# Altium footprint library RCDQLY.PCBLIB: 125 footprints (part 8 of 8)
Each footprint in its own frame and in the unit in brackets; x right, y up, seen from the top. Pads: shape width x height; smd on the part's side, far side on the other; paste and mask are expansions set on the pad; w line width, h text height; cw(c..) or ccw(c..) is an arc to the next point about the centre after c.
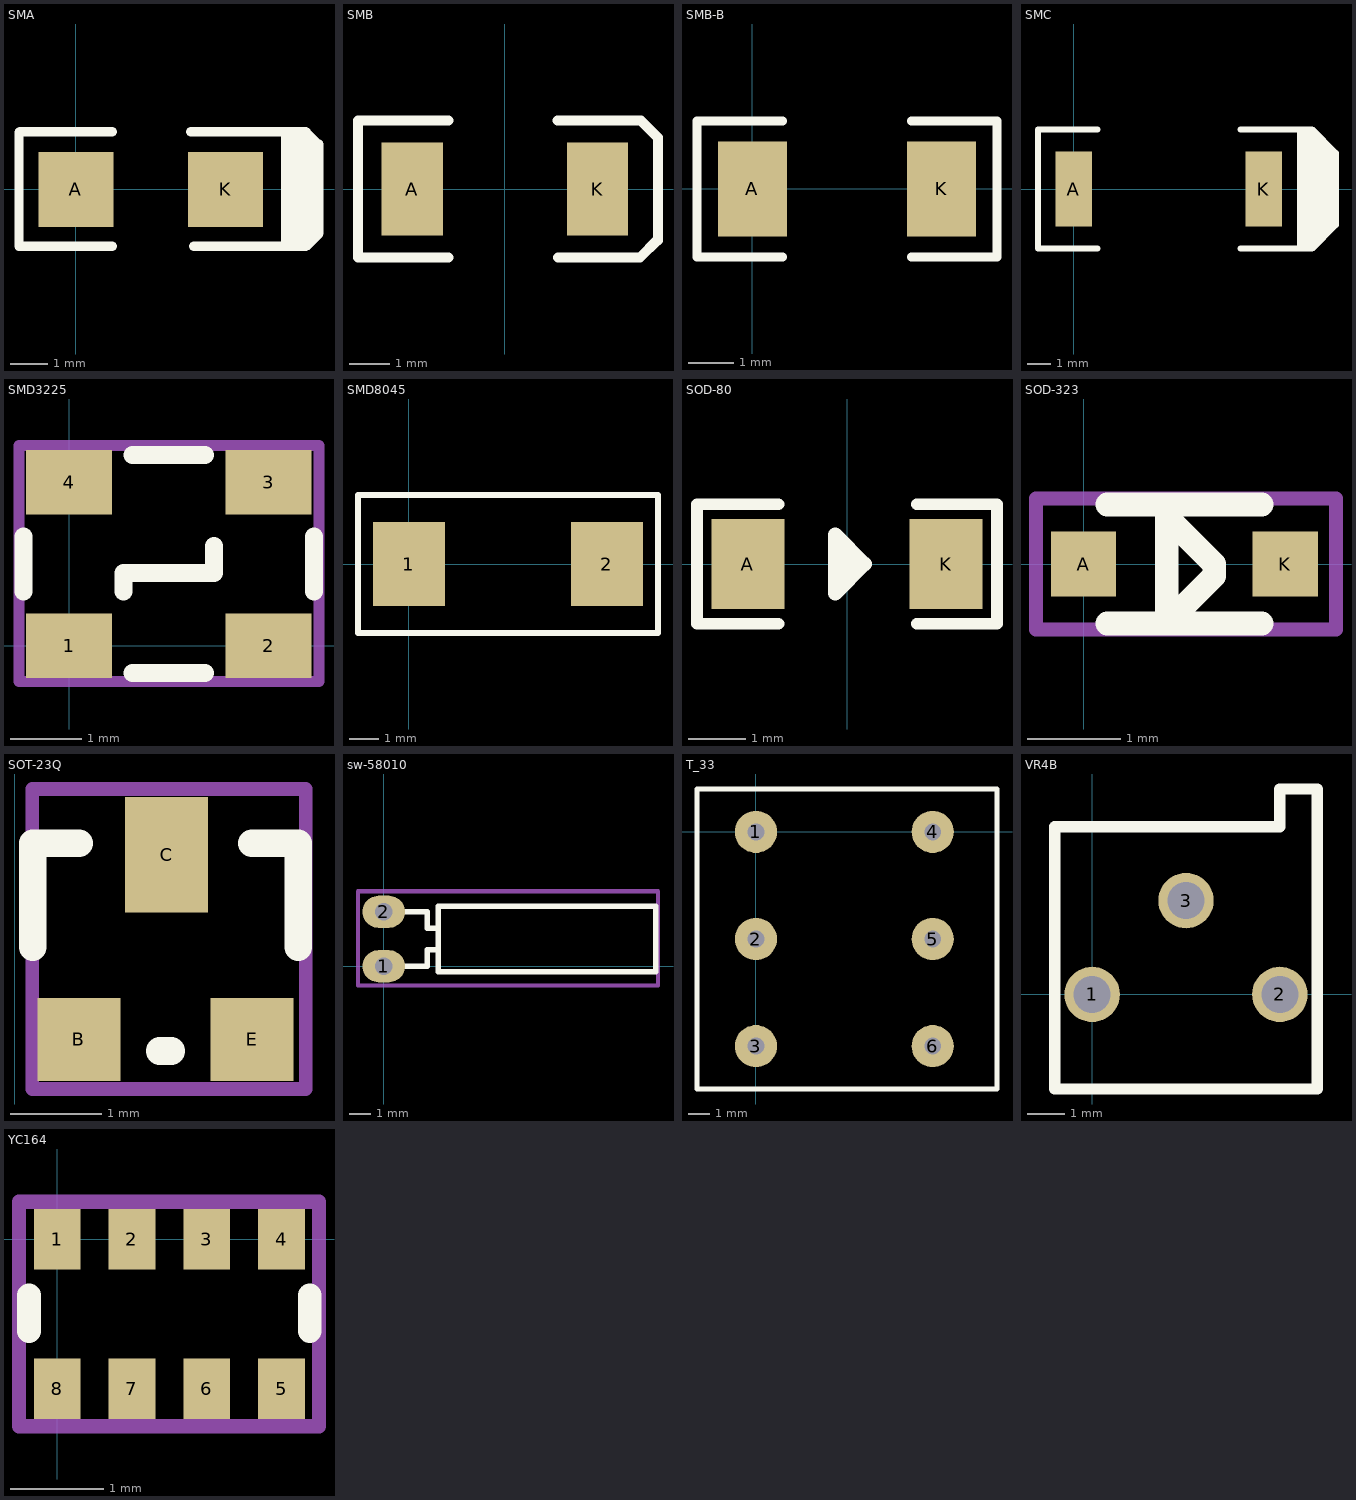
[diagram p7: the footprints below, top view; thin cyan lines are the x and y axes]

## SMA [mm]
pads (2):
  rect 2x2 smd: A(0,0) K(4,0)
TopOverlay:
  rectangle: 5.486,-1.473 6.223,1.499
  rectangle: 5.486,-1.27 6.379,1.241
  lines w0.254: -1.524,1.524 -1.524,-1.524 0.965,-1.524 ; -1.499,1.549 0.965,1.549 ; 3.073,1.549 6.147,1.549 6.147,1.346 6.498,0.995 6.431,0.995 6.262,0.825 6.262,1.033 ; 3.15,-1.524 5.486,-1.524 6.096,-1.524 ; 6.147,-1.473 6.096,-1.524 ; 6.172,1.511 6.477,1.206 ; 6.498,1.206 6.498,-1.176 6.15,-1.524 6.096,-1.524

## SMB [mm]
pads (2):
  rect 1.52x2.3 smd: A(-2.3,0) K(2.3,0)
TopOverlay:
  lines w0.254: -3.649,-1.702 -3.649,1.702 ; -3.649,-1.7 -1.406,-1.7 ; -3.649,1.7 -1.401,1.7 ; 1.307,1.7 3.353,1.7 ; 1.325,-1.7 3.353,-1.7 3.783,-1.27 ; 3.371,1.7 3.801,1.27 3.801,-1.27

## SMB-B [mil]
pads (2):
  rect 60x82 smd: A(0,0) K(164,0)
TopOverlay:
  lines w8: 26,-59 -48,-59 -48,59 26,59 ; 138,-59 212,-59 212,59 138,59

## SMC [mm]
pads (2):
  rect 1.55x3.2 smd: A(0,0) K(8.1,0)
TopOverlay:
  rectangle: 10.033,2.286 10.332,2.368
  rectangle: 10.344,1.975 10.552,2.148
  rectangle: 10.668,1.685 10.937,1.763
  rectangle: 10.611,1.708 10.798,1.902
  rectangle: 10.668,1.27 11.015,1.685
  rectangle: 10.541,-1.905 10.795,-1.397
  rectangle: 10.287,1.27 10.668,2.032
  rectangle: 9.906,-2.286 10.541,-1.397
  rectangle: 10.033,1.397 10.414,2.286
  rectangle: 10.16,-1.524 11.176,1.524
  rectangle: 9.652,-2.54 10.16,2.54
  lines w0.254: 1.016,-2.54 -1.524,-2.54 -1.524,2.54 1.016,2.54 ; 7.112,-2.54 9.652,-2.54 ; 7.112,2.54 9.652,2.54 ; 10.033,2.286 10.922,1.397 ; 10.922,-1.524 10.16,-2.286 10.16,-2.54 ; 9.652,-2.54 10.16,-2.54 ; 9.652,-2.54 9.652,2.54 ; 9.652,2.54 10.16,2.54 ; 10.16,-2.54 11.176,-1.524 11.176,1.524 ; 10.16,2.54 11.176,1.524 ; 10.16,2.54 11.176,1.524

## SMD3225 [mm]
pads (4):
  rect 1.2x0.9 smd: 1(0,0) 2(2.794,0) 3(2.794,2.286) 4(0,2.286)
TopOverlay:
  lines w0.254: -0.635,0.762 -0.635,1.524 ; 0.762,0.762 0.762,1.016 2.032,1.016 2.032,1.397 ; 0.889,-0.381 1.905,-0.381 ; 0.889,2.667 1.905,2.667 ; 3.429,0.762 3.429,1.524
Mechanical13:
  lines w0.152: -0.7,-0.5 -0.7,2.8 3.5,2.8 3.5,-0.5 -0.7,-0.5
  text ".Designator" at -0.354,0.946 h0.51
Mechanical15:
  lines w0.152: -0.7,-0.5 3.5,-0.5 3.5,2.8 -0.7,2.8 -0.7,-0.5
  text ".Comment" at -0.354,0.946 h0.51
3D body "XTAL-3225.STEP": height 0.8, standoff 0, extent -0.149,-0.068 3.051,2.432

## SMD8045 [mm]
pads (2):
  rect 2.4x2.8 smd: 1(0,0) 2(6.6,0)
TopOverlay:
  lines w0.203: -1.7,-2.3 -1.7,2.3 8.253,2.3 ; -1.653,-2.3 8.3,-2.3 8.3,2.3

## SOD-80 [mil]
pads (2):
  rect 50x62 smd: A(-68,0) K(68,0)
TopOverlay:
  lines w8: -47,-41 -103,-41 -103,41 -47,41 ; 48,-41 103,-41 103,41 48,41
  lines w10: -8,-10 -3,-10 2,-5 2,0 -1.96,3.96 -8,10 -8,20 ; -8,20 12,0 -8,-20 -8,20

## SOD-323 [mm]
pads (2):
  rect 0.7x0.7 smd: A(0,0) K(2.159,0)
TopOverlay:
  lines w0.254: 0.254,-0.635 1.905,-0.635 ; 0.254,0.635 1.905,0.635 ; 0.889,-0.635 0.889,0.508 1.397,0 1.397,-0.127 0.889,-0.635
Mechanical13:
  lines w0.152: -0.508,-0.7 2.7,-0.7 2.7,0.7 -0.508,0.7 -0.508,-0.7
  text ".Designator" at -0.254,-0.254 h0.51
Mechanical15:
  lines w0.152: -0.508,-0.7 -0.508,0.7 2.7,0.7 2.7,-0.7 -0.508,-0.7
  text ".Comment" at -0.254,-0.254 h0.51
3D body "User Library-SOD882-1.step": height 0.48, standoff -0.03, extent 0.608,-0.293 1.593,0.293

## SOT-23Q [mil]
pads (3):
  rect 36x36 smd: B(27.75,-120.28) E(102.75,-120.28)
  rect 36x50 smd: C(65.75,-40.28)
TopOverlay:
  lines w12: 7.75,-80.28 7.75,-35.28 27.75,-35.28 ; 62.76,-125.28 67.75,-125.28 ; 102.75,-35.28 122.75,-35.28 122.75,-80.28
Mechanical13:
  lines w6: 7.56,-141.73 125.98,-141.73 125.98,-11.81 7.56,-11.81 7.56,-141.73
  text ".Designator" at 17.56,-96.61 h20
Mechanical15:
  lines w6: 7.56,-141.73 7.56,-11.81 125.98,-11.81 125.98,-141.73 7.56,-141.73
  text ".Comment" at 17.56,-96.61 h20
3D body "SOT-23-3.STEP": height 47.24, standoff 0, extent 8,-123.07 122.17,-12.83

## sw-58010 [mm]
pads (2):
  oval 2x1.5 hole 0.8: 1(0,0) 2(0,2.54)
TopOverlay:
  lines w0.254: 0,0 2.032,0 2.032,0.762 2.54,0.762 ; 0,2.54 2.032,2.54 2.032,1.778 2.54,1.778 ; 2.54,0.762 2.54,1.778 ; 2.54,0.762 2.54,-0.254 12.7,-0.254 12.7,2.794 2.54,2.794 2.54,1.778
Mechanical13:
  lines w0.2: -1.2,-0.9 12.8,-0.9 12.8,3.5 -1.2,3.5 -1.2,-0.9
  text ".Designator" at 2.6,1 h1.02
Mechanical15:
  lines w0.2: -1.2,-0.9 12.8,-0.9 12.8,3.5 -1.2,3.5 -1.2,-0.9
  text ".Comment" at 2.6,1 h1.02
3D body: height 4.33, standoff -0.07, extent -0.056,-0.254 2.596,0.811
3D body: height 5.5, standoff 2.5, extent 2.62,-0.254 12.62,2.746
3D body: height 4.33, standoff -0.07, extent -0.056,1.475 2.596,2.54

## T_33 [mm]
pads (6):
  round 2 hole 0.8: 1(0,0) 2(0,-5.08) 3(0,-10.16) 4(8.382,0) 5(8.382,-5.08) 6(8.382,-10.16)
TopOverlay:
  lines w0.254: -2.794,-12.192 11.43,-12.192 11.43,2.032 -2.794,2.032 -2.794,-12.192

## VR4B [mm]
pads (3):
  round 1.5 hole 1: 1(0,0) 2(5.08,0) 3(2.54,2.54)
TopOverlay:
  lines w0.305: -1.01,-2.56 -1.01,4.54 5.08,4.54 5.08,5.562 6.09,5.562 6.09,-2.56 -1.01,-2.56

## YC164 [mm]
pads (8):
  rect 0.5x0.65 smd: 1(0,0) 2(0.8,0) 3(1.6,0) 4(2.4,0) 5(2.4,-1.6) 6(1.6,-1.6) 7(0.8,-1.6) 8(0,-1.6)
TopOverlay:
  lines w0.254: -0.3,-0.981 -0.3,-0.6 ; 2.7,-0.981 2.7,-0.6
Mechanical13:
  lines w0.152: -0.408,-2 -0.408,0.4 2.8,0.4 2.8,-2 -0.408,-2
  text ".Designator" at -0.154,-1.054 h0.51
Mechanical15:
  lines w0.152: -0.408,-2 2.8,-2 2.8,0.4 -0.408,0.4 -0.408,-2
  text ".Comment" at -0.154,-1.054 h0.51
3D body: height 1, standoff 0, extent -0.3,-1.6 2.7,0